# EAGLE library part TDA7293* (library Audio-Power-amlifier V.2.0)
120V - 100W DMOS Audio Amplifier with Mute/Standby
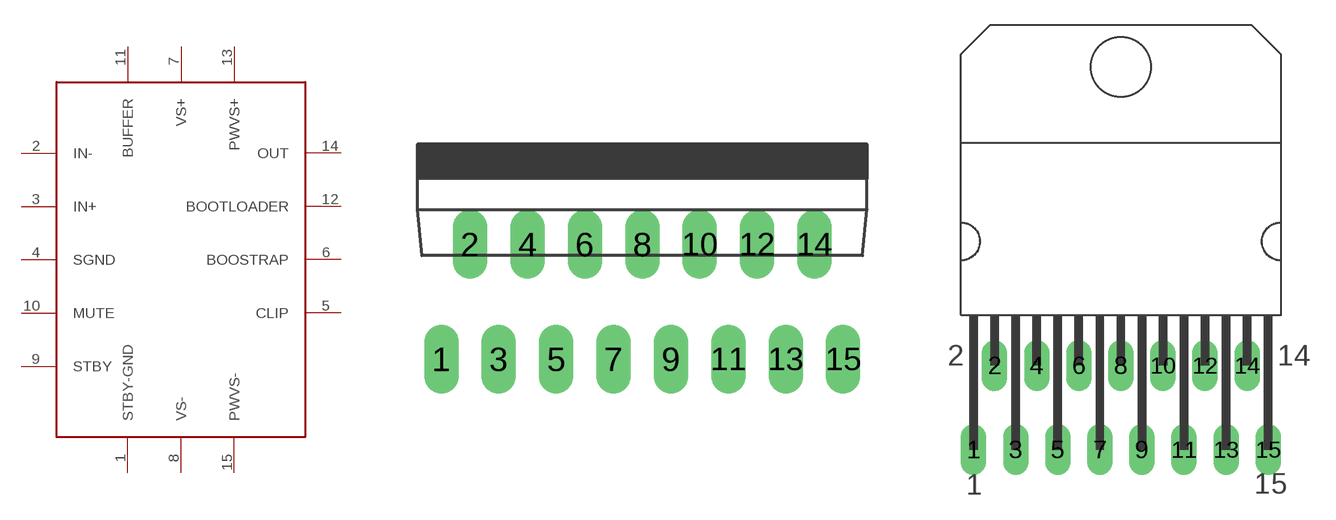
[diagram p14: symbol with the pads of MULTIWATT-15V; footprints MULTIWATT-15V, MULTIWATT-15H]

Designator prefix IC

## TDA7293VERTICAL  [MULTIWATT-15V]
1  STBY-GND  pwr
2  IN-  in
3  IN+  in
4  SGND  pwr
5  CLIP  oc
6  BOOSTRAP  pas
7  VS+  pwr
8  VS-  pwr
9  STBY  in
10  MUTE  in
11  BUFFER  pas
12  BOOTLOADER  pas
13  PWVS+  pwr
14  OUT  out
15  PWVS-  pwr

## TDA7293  [MULTIWATT-15H]
Pads as for MULTIWATT-15V

## Footprint MULTIWATT-15V (pad centres in mm)
Multiwatt 15 vertical
drill 1.016 long: 1 -8.89,-5.08; 2 -7.62,0; 3 -6.35,-5.08; 4 -5.08,0; 5 -3.81,-5.08; 6 -2.54,0; 7 -1.27,-5.08; 8 0,0; 9 1.27,-5.08; 10 2.54,0; 11 3.81,-5.08; 12 5.08,0; 13 6.35,-5.08; 14 7.62,0; 15 8.89,-5.08

## Footprint MULTIWATT-15H (pad centres in mm)
Multiwatt 15 horizontal
drill 1.016 long: 1 -8.89,-5.08; 2 -7.62,0; 3 -6.35,-5.08; 4 -5.08,0; 5 -3.81,-5.08; 6 -2.54,0; 7 -1.27,-5.08; 8 0,0; 9 1.27,-5.08; 10 2.54,0; 11 3.81,-5.08; 12 5.08,0; 13 6.35,-5.08; 14 7.62,0; 15 8.89,-5.08